# Altium footprint library Transistors.PcbLib: 8 footprints
Each footprint in its own frame and in the unit in brackets; x right, y up, seen from the top. Pads: shape width x height; smd on the part's side, far side on the other; paste and mask are expansions set on the pad; w line width, h text height; cw(c..) or ccw(c..) is an arc to the next point about the centre after c.
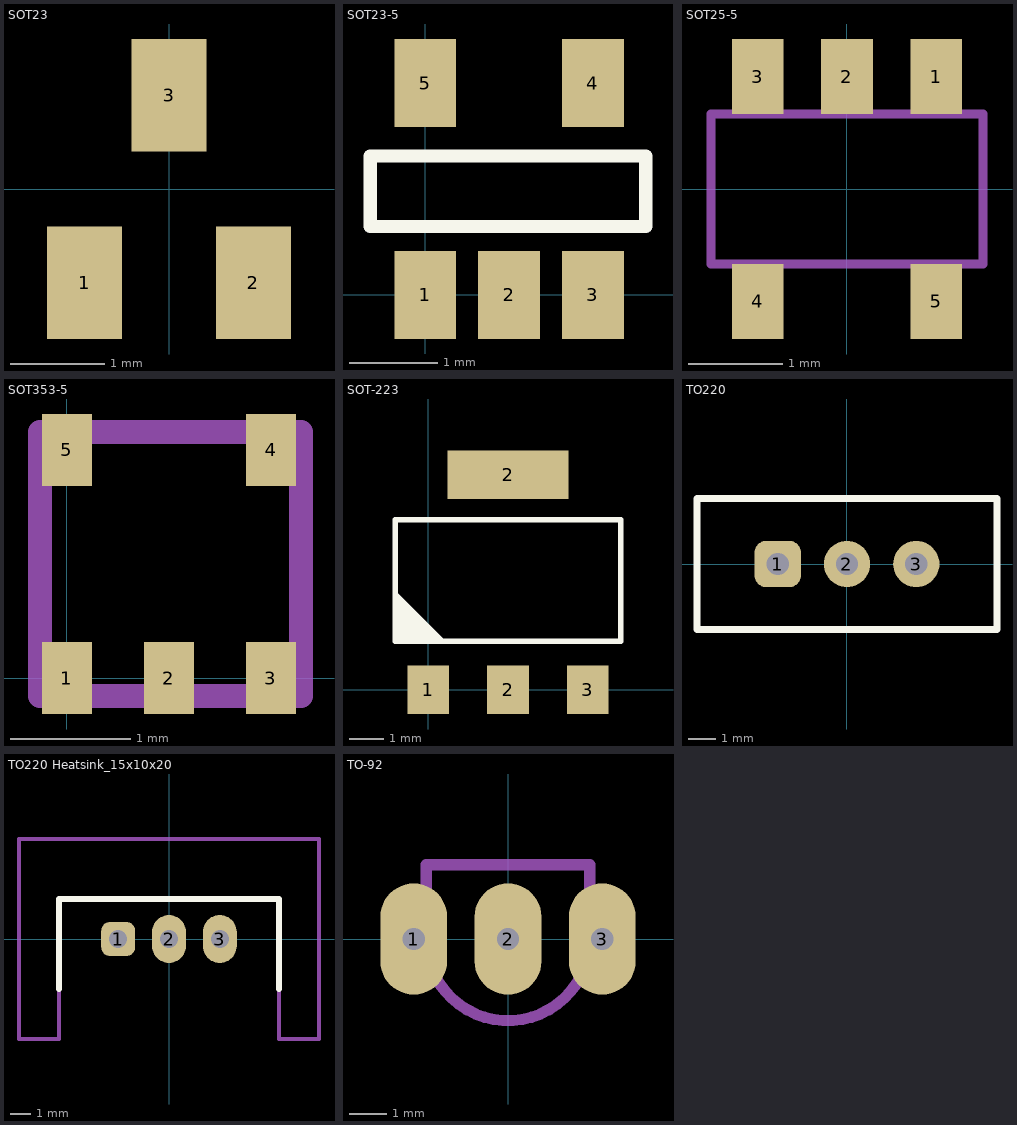
[diagram p0: the footprints below, top view; thin cyan lines are the x and y axes]

## SOT23 [mm]
pads (3):
  rect 0.8x1.2 smd: 1(-0.9,-1) 2(0.9,-1) 3(0,1)
3D body "sot-23.STEP": height 1.12, standoff 0, extent -1.46,-1.188 1.46,1.188

## SOT23-5 [mm]
pads (5):
  rect 0.7x1 smd mask+0.05: 1(0,0) 2(0.95,0) 3(1.9,0)
  rect 0.7x1 smd mask+0.102: 4(1.9,2.4) 5(0,2.4)
Top Overlay:
  lines w0.15: -0.625,0.775 2.5,0.775 2.5,1.575 -0.625,1.575 -0.625,0.775

## SOT25-5 [mm]
pads (5):
  rect 0.55x0.8 smd: 1(0.95,1.2) 2(0,1.2) 3(-0.95,1.2) 4(-0.95,-1.2) 5(0.95,-1.2)
Mechanical 1:
  lines w0.1: -1.45,-0.8 1.45,-0.8 1.45,0.8 -1.45,0.8 -1.45,-0.8

## SOT353-5 [mm]
pads (5):
  rect 0.42x0.6 smd: 1(0,0) 2(0.85,0) 3(1.7,0) 4(1.7,1.9) 5(0,1.9)
Mechanical 1:
  lines w0.2: -0.225,-0.15 1.95,-0.15 1.95,2.05 -0.225,2.05 -0.225,-0.15

## SOT-223 [mm]
pads (4):
  rect 1.2x1.4 smd: 1(0,0) 2(2.3,0) 3(4.6,0)
  rect 3.5x1.4 smd: 2(2.3,6.2)
Top Overlay:
  region: -0.95,1.4 -0.9,1.45 -0.9,2.8 0.5,1.4
  lines w0.15: -0.95,1.4 5.55,1.4 5.55,4.9 -0.95,4.9 -0.95,1.4
3D body "SOT-223.STEP": height 1.8, standoff 0, extent -0.951,-0.399 5.551,6.599

## TO220 [mm]
pads (3):
  rrect50% 1.7x1.7 hole 0.81: 1(-2.54,0)
  round 1.7 hole 0.81: 2(0,0) 3(2.54,0)
Top Overlay:
  lines w0.254: -5.5,-2.4 -5.5,2.4 5.5,2.4 5.5,-2.4 -5.5,-2.4
Bottom Overlay:
  lines w0.254: -5.5,-2.4 -5.5,2.4 5.5,2.4 5.5,-2.4 -5.5,-2.4

## TO220 Heatsink_15x10x20 [mm]
pads (3):
  rrect50% 1.7x1.7 hole 0.9: 1(-2.54,0)
  oval 1.7x2.4 hole 0.9: 2(0,0) 3(2.54,0)
Top Overlay:
  lines w0.3: -5.5,-2.5 -5.5,2 5.5,2 5.5,-2.5
Mechanical 13:
  lines w0.2: -7.5,-5 -5.5,-5 -5.5,2 5.5,2 5.5,-5 7.5,-5 7.5,5 -7.5,5 -7.5,-5
3D body "TO-220_vertical_line.stp": height 19, standoff -3, extent -5.25,-1.625 5.25,3.025
3D body: height -1, standoff -21, extent -7.5,-5.025 7.5,4.975

## TO-92 [mm] "Classic TO-92 0.1 inch (2.54 mm)"
pads (3):
  oval 1.8x3 hole 0.6: 1(-2.54,0) 2(0,0) 3(2.54,0)
Mechanical 1:
  lines w0.3: -2.2,0 ccw(c0,0) 2.2,0 2.2,2 -2.2,2 -2.2,0